# Altium schematic symbol library Trans,PNP,Dual,40V,200mA,SOT363.Schlib: 1 symbol
Pins are listed as number, name and electrical type; pins without a type are passive.

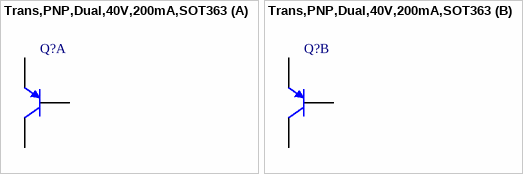
[diagram p0: symbol Trans,PNP,Dual,40V,200mA,SOT363]

## Trans,PNP,Dual,40V,200mA,SOT363
designator Q?
part A pins: 2 B1, 3 C1, 4 E1
part B pins: 1 B2, 5 E2, 6 C2